# Altium footprint library Maxim_Integrated_RF_Low_Noise_Amplifiers.PcbLib: 1 footprints
Each footprint in its own frame and in the unit in brackets; x right, y up, seen from the top. Pads: shape width x height; smd on the part's side, far side on the other; paste and mask are expansions set on the pad; w line width, h text height; cw(c..) or ccw(c..) is an arc to the next point about the centre after c.
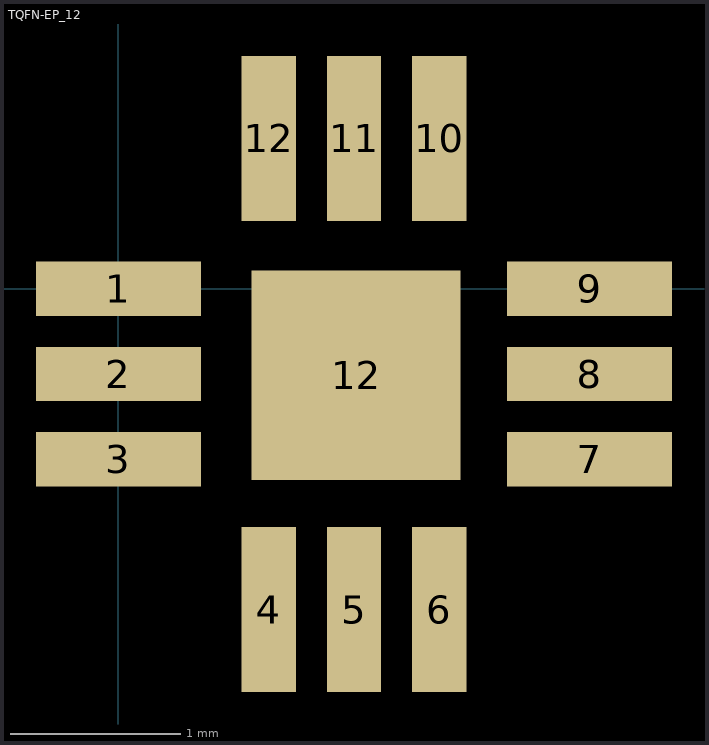
[diagram p0: the footprint, top view; thin cyan lines are the x and y axes]

## TQFN-EP_12 [mm] "12L TQFN PKG 3x3x0.75mm"
pads (13):
  rect 0.97x0.32 smd: 1(0,0) 2(0,-0.5) 3(0,-1) 7(2.77,-1) 8(2.77,-0.5) 9(2.77,0)
  rect 0.32x0.97 smd: 4(0.885,-1.885) 5(1.385,-1.885) 6(1.885,-1.885) 10(1.885,0.885) 11(1.385,0.885) 12(0.885,0.885)
  rect 1.23x1.23 smd: 12(1.397,-0.508)
3D body "T1233_3.STEP": height 0.84, standoff -0.01, extent -0.12,-2.01 2.89,1